# Altium footprint library VBlib_Resistors.PcbLib: 22 footprints (part 1 of 2)
Each footprint in its own frame and in the unit in brackets; x right, y up, seen from the top. Pads: shape width x height; smd on the part's side, far side on the other; paste and mask are expansions set on the pad; w line width, h text height; cw(c..) or ccw(c..) is an arc to the next point about the centre after c.
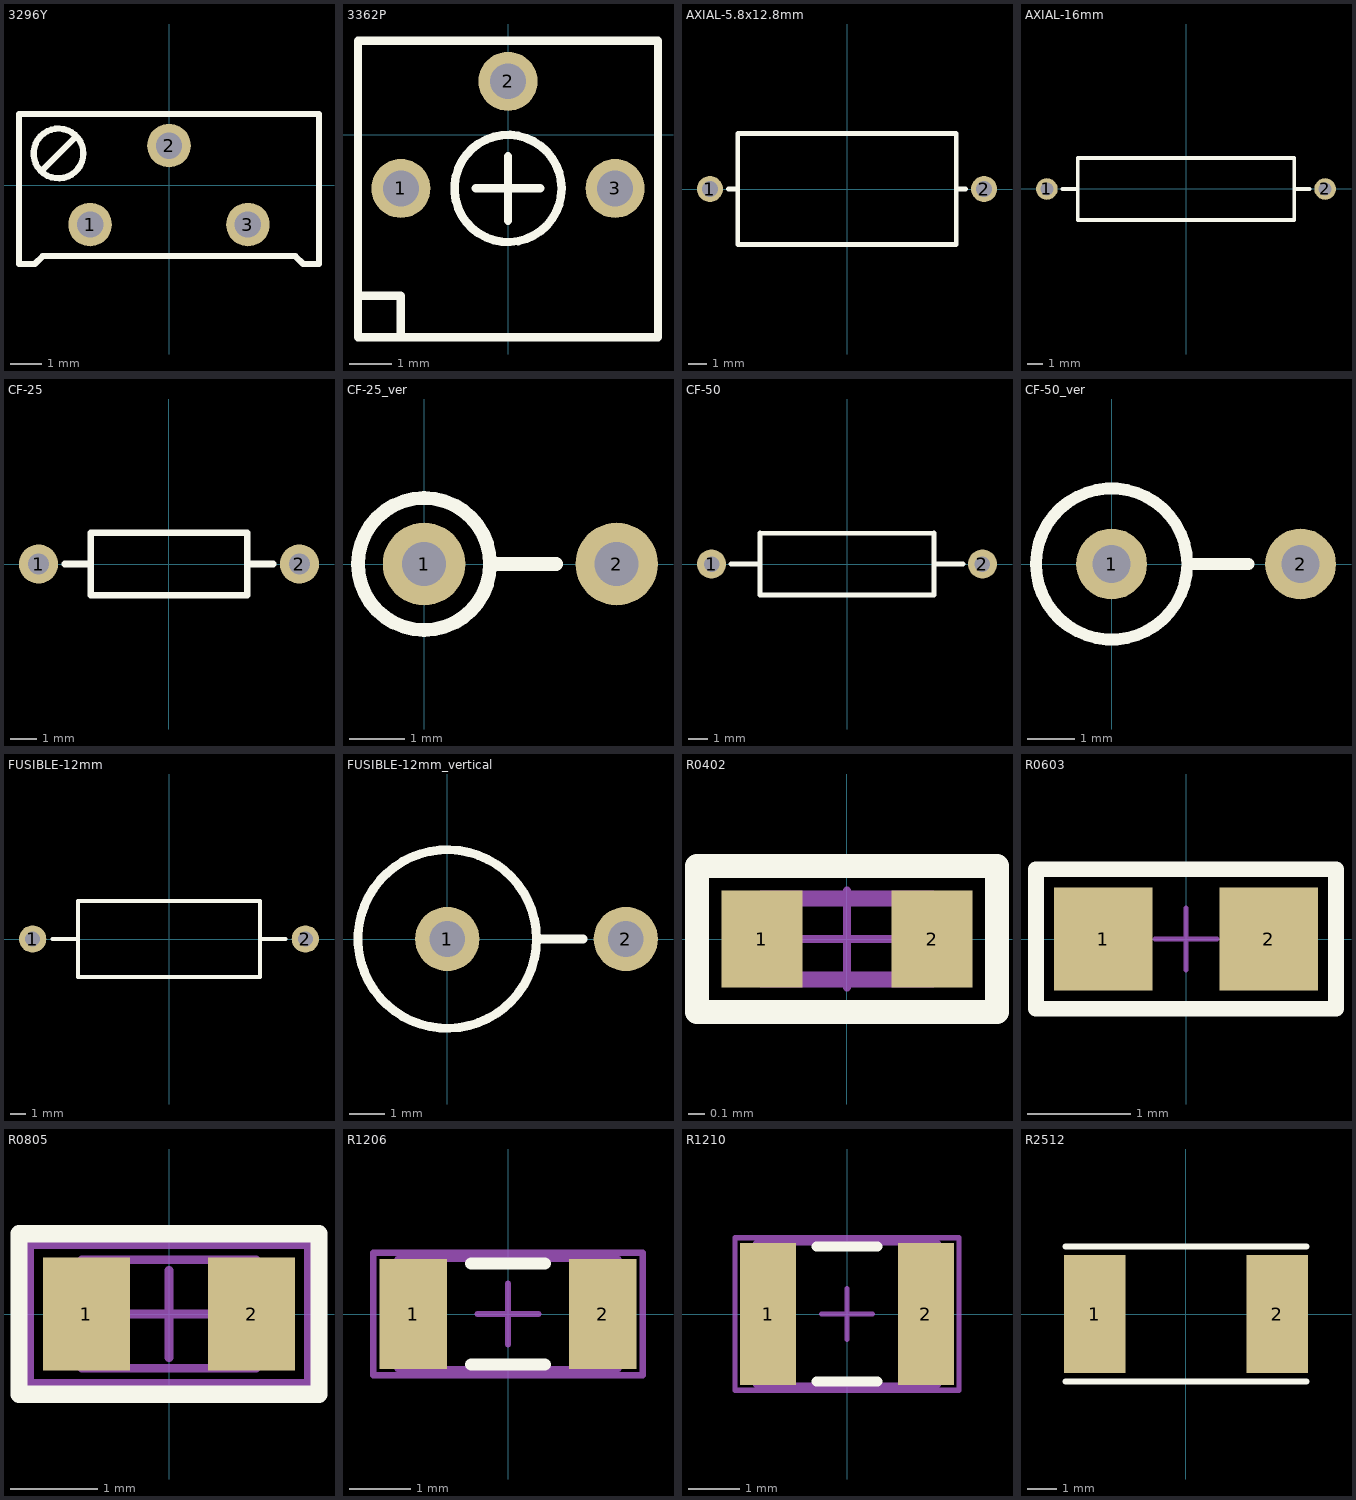
[diagram p0: the footprints below, top view; thin cyan lines are the x and y axes]

## 3296Y [mm] "BOURNS Square Trimpot® Trimming Potentiometer, Thru-Hole; 3 Leads."
height 11
pads (3):
  round 1.4 hole 0.85: 1(-2.54,-1.27) 2(0,1.27) 3(2.54,-1.27)
Top Overlay:
  circle w0.2: c-3.556,1.016 r0.8
  lines w0.2: -4.089,0.457 -2.997,1.549 ; -4.826,-2.54 -4.318,-2.54 -4.064,-2.286 4.064,-2.286 4.318,-2.54 4.826,-2.54 4.826,2.286 -4.826,2.286 -4.826,-2.54
3D body "Bourns 3296Y.STEP": height 11.65, standoff -2, extent -4.78,-2.445 4.75,2.355

## 3362P [mm] "BOURNS Square Trimpot® Trimming Potentiometer, Thru-Hole; 3 Leads."
height 4.7
pads (3):
  round 1.4 hole 0.85: 1(-2.54,-1.27) 2(0,1.27) 3(2.54,-1.27)
Top Overlay:
  circle w0.2: c0,-1.27 r1.27
  lines w0.2: -3.556,-3.81 -2.54,-3.81 -2.54,-4.801 ; -0.762,-1.27 0.762,-1.27 ; 0,-2.032 0,-0.508 ; -3.556,-4.801 -3.556,2.235 3.556,2.235 3.556,-4.801 -3.556,-4.801
3D body "Bourns 3362P.STEP": height 4.7, standoff -5.47, extent -3.3,-5.024 3.3,2.03

## AXIAL-5.8x12.8mm [mm] "Axial Device, Thru-Hole; 2 Leads; 18mm Pin Spacing"
height 4
pads (2):
  round 1.4 hole 0.85: 1(-7.4,0) 2(7.4,0)
Top Overlay:
  lines w0.254: -6.4,0 -5.9,0 ; 5.9,0 6.4,0 ; -5.9,-3 -5.9,3 5.9,3 5.9,-3 -5.9,-3

## AXIAL-16mm [mm] "Axial Device, Thru-Hole; 2 Leads; 18mm Pin Spacing"
height 4
pads (2):
  round 1.4 hole 0.85: 1(-9,0) 2(9,0)
Top Overlay:
  lines w0.254: -8,0 -7,0 ; 7,0 8,0 ; -7,-2 -7,2 7,2 7,-2 -7,-2

## CF-25 [mm] "Resistor"
height 2.5
pads (2):
  round 1.5 hole 0.8: 1(-5,0) 2(5,0)
Top Overlay:
  lines w0.25: -4,0 -3,0 ; 3,0 4,0 ; -3,-1.2 -3,1.2 3,1.2 3,-1.2 -3,-1.2
3D body "CF-25.STEP": height 1.5, standoff -2.5, extent 0.1,-0.3 5.3,0.3
3D body "CF-25.STEP": height 1.5, standoff -2.5, extent -5.3,-0.3 -0.1,0.3
3D body: height 2.35, standoff 0.05, extent -3,-1.147 -0.7,1.147
3D body: height 2.2, standoff 0.2, extent -1.85,-0.996 1.85,0.996
3D body: height 2.35, standoff 0.05, extent 0.7,-1.147 3,1.147

## CF-25_ver [mm] "Resistor"
height 2.5
pads (2):
  round 1.5 hole 0.8: 1(0,0) 2(3.5,0)
Top Overlay:
  circle w0.25: c0,0 r1.2
  lines w0.25: 1.2,0 2.4,0
3D body: height 3.35, standoff 1.05, extent -1.15,-1.147 1.15,1.147
3D body: height 5.4, standoff 1.7, extent -0.998,-0.996 0.998,0.996
3D body: height 6.05, standoff 3.75, extent -1.15,-1.147 1.15,1.147

## CF-50 [mm] "Resistor"
height 3.2
pads (2):
  round 1.5 hole 0.8: 1(-7,0) 2(7,0)
Top Overlay:
  lines w0.25: -6,0 -4.5,0 ; -4.5,1.589 4.5,1.602 ; -4.5,1.6 -4.5,-1.6 4.5,-1.6 4.5,1.6 ; 4.5,0 6,0
3D body "CF-25.STEP": height 2, standoff -2, extent 2.1,-0.3 7.3,0.3
3D body "CF-25.STEP": height 2, standoff -2, extent -7.3,-0.3 -2.1,0.3
3D body: height 3, standoff 0.4, extent -2.9,-1.29 2.9,1.3
3D body: height 3.3, standoff 0.1, extent 1.312,-1.597 4.5,1.597
3D body: height 3.3, standoff 0.1, extent -4.5,-1.597 -1.312,1.597

## CF-50_ver [mm] "Resistor"
height 3.2
pads (2):
  round 1.5 hole 0.8: 1(0,0) 2(4,0)
Top Overlay:
  circle w0.25: c0,0 r1.6
  lines w0.25: 1.6,0 2.9,0
3D body: height 4.2, standoff 1, extent -1.59,-1.6 1.599,1.594
3D body: height 10, standoff 6.8, extent -1.594,-1.597 1.594,1.597
3D body: height 8.8, standoff 3, extent -1.297,-1.29 1.297,1.3

## FUSIBLE-12mm [mm]
pads (2):
  round 1.8 hole 1: 1(-9,0) 2(9,0)
Top Overlay:
  lines w0.254: -7.7,0 -6,0 ; 6,0 7.7,0 ; -6,-2.5 6,-2.5 6,2.5 -6,2.5 -6,-2.5
3D body: height 5, standoff 1, extent -3,-2 3,2
3D body: height 5.5, standoff 0.5, extent -5.989,-2.497 -1,2.497
3D body: height 5.5, standoff 0.5, extent 1,-2.497 5.989,2.497
3D body "Fusible_12mm.STEP": height 3.4, standoff -2.5, extent -9.4,-0.4 -1,0.4
3D body "Fusible_12mm.STEP": height 3.4, standoff -2.5, extent 1,-0.4 9.4,0.4

## FUSIBLE-12mm_vertical [mm]
height 15
pads (2):
  round 1.8 hole 1: 1(0,0) 2(5,0)
Top Overlay:
  circle w0.25: c0,0 r2.5
  lines w0.254: 2.5,0.002 3.8,0.001
3D body "Fusible_12mm_ver.stp": height 15.9, standoff -2.5, extent -2.5,-2.5 5.4,2.5
3D body: height 3, standoff -2.5, extent 4.603,-0.399 5.4,0.399

## R0402 [mm] "Chip Resistor, Body 1.0x0.5mm IPC Medium Density"
height 0.35
pads (2):
  rect 0.5x0.6 smd: 1(-0.525,0) 2(0.525,0)
Top Overlay:
  lines w0.15: -0.925,-0.45 -0.925,0.45 0.925,0.45 0.925,-0.45 -0.925,-0.45
Mechanical 13:
  lines w0.1: -0.525,-0.25 0.525,-0.25 0.525,0.25 -0.525,0.25 -0.525,-0.25
Mechanical 15:
  lines w0.05: -0.3,0 0.3,0 ; 0,-0.3 0,0.3 ; -0.925,-0.45 0.925,-0.45 0.925,0.45 -0.925,0.45 -0.925,-0.45
3D body "R0402.STEP": height 0.3, standoff 0, extent -0.5,-0.25 0.5,0.25

## R0603 [mm]
pads (2):
  rect 0.95x1 smd: 1(-0.8,0) 2(0.8,0)
Top Overlay:
  lines w0.15: -1.45,-0.675 1.45,-0.675 1.45,0.675 -1.45,0.675 -1.45,-0.675
Mechanical 15:
  lines w0.05: -0.3,0 0.3,0 ; 0,-0.3 0,0.3 ; -1.45,-0.675 -1.45,0.675 1.425,0.675 1.425,-0.675 -1.45,-0.675
3D body "0603 SMD Resistor.STEP": height 0.3, standoff 0, extent -0.8,-0.4 0.8,0.4

## R0805 [mm]
pads (2):
  rect 1x1.3 smd: 1(-0.95,0) 2(0.95,0)
Top Overlay:
  lines w0.2: -1.725,-0.925 -1.725,0.925 1.725,0.925 1.725,-0.925 -1.725,-0.925
Mechanical 13:
  lines w0.1: -1,-0.625 1,-0.625 1,0.625 -1,0.625 -1,-0.625
Mechanical 15:
  lines w0.1: -0.5,0 0.5,0 ; 0,-0.5 0,0.5 ; -1.6,-0.8 -1.6,0.8 1.6,0.8 1.6,-0.8 -1.6,-0.8
3D body "0805 SMD Resistor.STEP": height 0.5, standoff 0, extent -1,-0.625 1,0.625

## R1206 [mm]
pads (2):
  rect 1.1x1.8 smd: 1(-1.55,0) 2(1.55,0)
Top Overlay:
  lines w0.2: -0.6,-0.825 0.6,-0.825 ; -0.6,0.825 0.6,0.825
Mechanical 13:
  lines w0.1: -1.8,-0.9 1.8,-0.9 1.8,0.9 -1.8,0.9 -1.8,-0.9
Mechanical 15:
  lines w0.1: -0.5,0 0.5,0 ; 0,-0.5 0,0.5 ; -2.2,-1 -2.2,1 2.2,1 2.2,-1 -2.2,-1
3D body "1206 SMD Resistor.STEP": height 1, standoff 0, extent -1.6,-0.8 1.6,0.8

## R1210 [mm]
pads (2):
  rect 1.1x2.8 smd: 1(-1.55,0) 2(1.55,0)
Top Overlay:
  lines w0.2: -0.6,-1.325 0.6,-1.325 ; -0.6,1.325 0.6,1.325
Mechanical 13:
  lines w0.1: -1.8,-1.4 -1.8,1.4 1.8,1.4 1.8,-1.4 -1.8,-1.4
Mechanical 15:
  lines w0.1: -0.5,0 0.5,0 ; 0,-0.5 0,0.5 ; -2.2,-1.5 -2.2,1.5 2.2,1.5 2.2,-1.5 -2.2,-1.5
3D body "Resistor 1210.step": height 0.5, standoff 0, extent -1.85,-1.3 1.85,1.3

## R2512 [mm] "Chip Resistor, Body 6.45x3.35mm"
height 0.9
pads (2):
  rect 2.1x4 smd: 1(-3.1,0) 2(3.1,0)
Top Overlay:
  lines w0.2: -4.1,-2.3 4.1,-2.3 ; -4.1,2.3 4.1,2.3
3D body "R2512.STEP": height 0.47, standoff 0, extent -3.175,-1.601 3.175,1.601